# Altium footprint library RESISTORS.PcbLib: 18 footprints (part 1 of 2)
Each footprint in its own frame and in the unit in brackets; x right, y up, seen from the top. Pads: shape width x height; smd on the part's side, far side on the other; paste and mask are expansions set on the pad; w line width, h text height; cw(c..) or ccw(c..) is an arc to the next point about the centre after c.
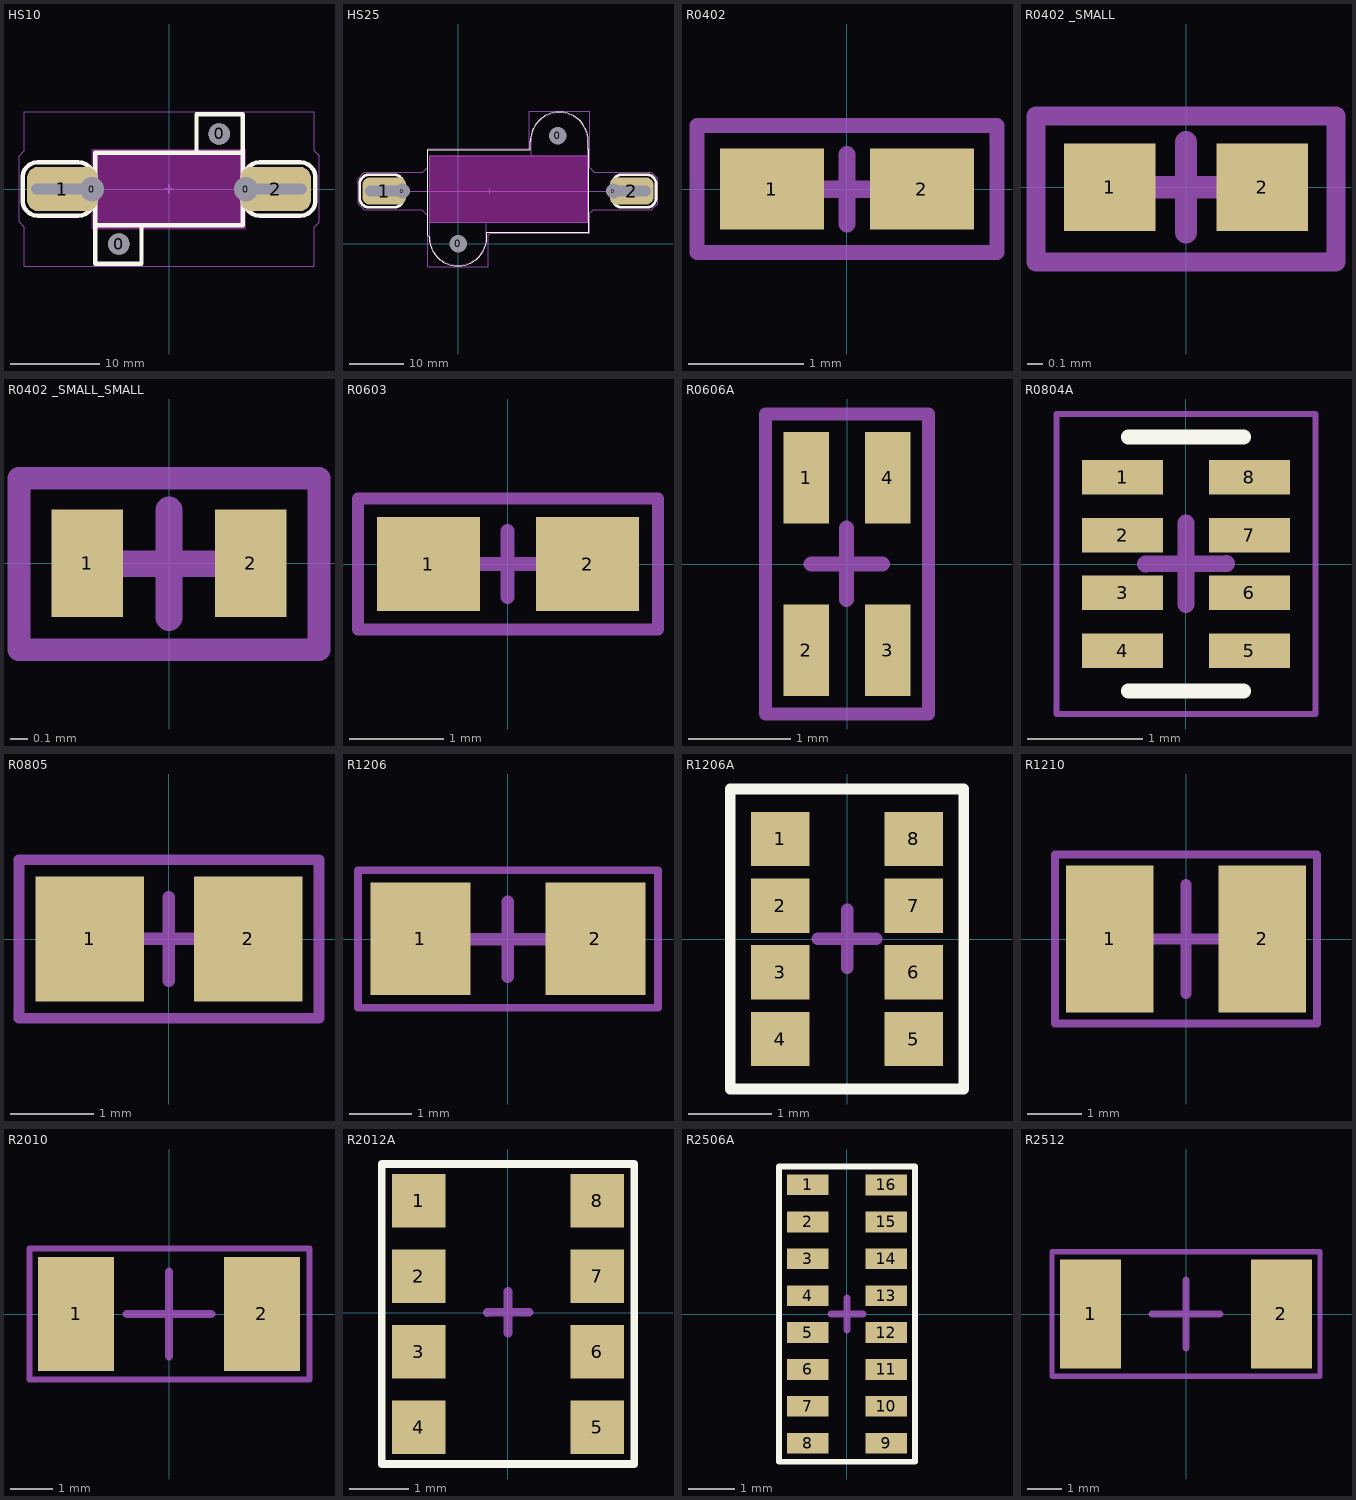
[diagram p0: the footprints below, top view; thin cyan lines are the x and y axes]

## HS10 [mm] "HS10"
height 9
pads (6):
  round 1.4 hole 2.75 unplated: 0(-8.678,-0.025) 0(8.675,-0.025)
  round 2.4 hole 2.4 unplated: 0(-5.65,-6.2) 0(5.65,6.2)
  rrect50% 8x5 hole 1.2 slot 7 at 0 deg paste+0 mask+0.102: 1(-12,0)
  rrect50% 8x5 hole 1.2 slot 7 at 0 deg: 2(12,0)
Top Overlay:
  lines w0.5: -14.8,-3 -10.2,-3 ; -14.8,3 -10.2,3 ; -14.793,-3 cw(c-14.793,-1.293) -16,-2.5 cw(c-14.793,-1.293) -16.5,-1.293 -16.5,1.293 cw(c-14.793,1.293) -16,2.5 cw(c-14.793,1.293) -14.793,3 ; -10.207,-3 ccw(c-10.207,-1.293) -9,-2.5 ccw(c-10.207,-1.293) -8.5,-1.293 -8.5,1.293 ccw(c-10.207,1.293) -9,2.5 ccw(c-10.207,1.293) -10.207,3 ; -8.3,-4 -8.3,-8.4 -3.1,-8.4 -3.1,-4.1 ; 3.1,4.1 3.1,8.4 8.3,8.4 8.3,3.9 ; 10.2,-3 14.8,-3 ; 10.2,3 14.8,3 ; 10.207,-3 cw(c10.207,-1.293) 9,-2.5 cw(c10.207,-1.293) 8.5,-1.293 8.5,1.293 cw(c10.207,1.293) 9,2.5 cw(c10.207,1.293) 10.207,3 ; 14.793,-3 ccw(c14.793,-1.293) 16,-2.5 ccw(c14.793,-1.293) 16.5,-1.293 16.5,1.293 ccw(c14.793,1.293) 16,2.5 ccw(c14.793,1.293) 14.793,3 ; -8.3,-4.1 8.3,-4.1 8.3,4.1 -8.3,4.1 -8.3,-4.1
Top Paste:
  lines w0.5: -3.4,-4.1 -3.3,-4.1
Keep-Out Layer:
  board cut-out: -8.678,4.475 -8.678,-4.525 8.675,-4.525 8.675,4.475
Top Assembly:
  lines w0.127: -16.9,-3.713 -16.325,-4.288 -16.325,-8.7 16.375,-8.7 16.375,-4.287 16.9,-3.762 16.9,3.763 16.375,4.288 16.375,8.7 -16.325,8.698 -16.325,4.286 -16.9,3.711 -16.9,-3.713
  text ".Designator" at -11.2,5.7 h1.2
Top Component Center:
  lines w0.15: -0.502,0 0.498,0 ; -0.006,-0.499 -0.006,0.501
3D body "1879073-3.stp": height 4.1, standoff -4.9, extent -15,-8.5 15,8.5

## HS25 [mm] "HS10"
height 9
pads (6):
  round 1.4 hole 2.75 unplated: 0(-10.227,9.652) 0(28.538,9.652)
  round 2.4 hole 3.2 unplated: 0(0,0) 0(18.3,19.8)
  rrect50% 8x5 hole 2 slot 7 at 0 deg paste+0 mask+0.102: 1(-13.549,9.677)
  rrect50% 8x5 hole 2 slot 7 at 0 deg: 2(31.863,9.677)
Top Overlay:
  lines w0.152: -5.334,1.245 ccw(c-0.013,1.245) 5.309,1.245 ; -5.334,1.27 -5.537,1.473 -5.537,2.273 -5.537,17.272 13.259,17.272 13.284,17.297 13.284,18.847 cw(c18.605,18.847) 23.927,18.847 ; 5.309,1.27 5.309,2.083 ; 5.309,2.089 23.978,2.121 23.978,17.255 ; 23.927,18.943 23.927,17.323 23.978,17.272
  lines w0.5: -16.349,6.677 -11.749,6.677 ; -16.349,12.677 -11.749,12.677 ; -16.342,6.677 cw(c-16.342,8.385) -17.549,7.177 cw(c-16.342,8.385) -18.049,8.385 -18.049,10.97 cw(c-16.342,10.97) -17.549,12.177 cw(c-16.342,10.97) -16.342,12.677 ; -11.757,6.677 ccw(c-11.757,8.385) -10.549,7.177 ccw(c-11.757,8.385) -10.049,8.385 -10.049,10.97 ccw(c-11.757,10.97) -10.549,12.177 ccw(c-11.757,10.97) -11.757,12.677 ; 30.063,6.677 34.663,6.677 ; 30.063,12.677 34.663,12.677 ; 30.07,6.677 cw(c30.07,8.385) 28.863,7.177 cw(c30.07,8.385) 28.363,8.385 28.363,10.97 cw(c30.07,10.97) 28.863,12.177 cw(c30.07,10.97) 30.07,12.677 ; 34.656,6.677 ccw(c34.656,8.385) 35.863,7.177 ccw(c34.656,8.385) 36.363,8.385 36.363,10.97 ccw(c34.656,10.97) 35.863,12.177 ccw(c34.656,10.97) 34.656,12.677
Keep-Out Layer:
  board cut-out: -5.207,16.154 -5.207,3.962 23.8,3.962 23.8,16.154
Top Assembly:
  lines w0.1: -13.549,9.677 31.451,9.677
  lines w0.127: 36.712,7.459 36.712,11.904 35.484,13.132 24.994,13.132 24.181,13.945 24.181,24.309 13.056,24.309 13.056,17.628 12.903,17.475 -5.537,17.475 -5.537,14.072 -6.528,13.081 -17.221,13.081 -18.373,11.929 -18.373,7.375 -17.255,6.257 -6.647,6.257 -5.563,5.173 -5.563,-4.216 5.563,-4.216 5.563,1.549 5.893,1.88 24.181,1.88 24.181,5.613 24.79,6.223 35.484,6.223 36.72,7.459
  text ".Designator" at 1.372,11.709 h1.2
Top Component Center:
  lines w0.15: 5.289,9.678 6.289,9.678 ; 5.785,9.178 5.785,10.178
Mechanical 13:
  lines w0: -5.207,1.245 ccw(c-0.013,1.245) 5.182,1.245 ; 13.411,18.847 cw(c18.605,18.847) 23.8,18.847
  lines w0.025: -5.207,1.245 -5.207,3.95 ; 5.182,1.245 5.182,3.95 ; 13.411,16.142 13.411,18.847 ; 23.8,18.847 23.8,16.142 ; -5.207,3.95 -5.207,16.142 23.8,16.142 ; -5.207,3.95 23.8,3.95 23.8,16.142
3D body "HSA25 - c-1676625-2-t-3d.stp": height 7, standoff -8, extent -16.35,-4.3 34.65,23.7

## R0402 [mm]
pads (2):
  rect 0.9x0.7 smd: 1(-0.65,0) 2(0.65,0)
Top Assembly:
  lines w0.127: -1.3,-0.55 -1.3,0.55 1.3,0.55 1.3,-0.55 -1.3,-0.55
  text ".Designator" at -1.45,1.2 h0.7
Top Component Center:
  lines w0.15: -0.3,-0.002 0.3,-0.002 ; 0,-0.302 0,0.298
3D body: height 0.4, standoff 0, extent 0.25,-0.3 0.55,0.3
3D body: height 0.4, standoff 0, extent -0.55,-0.3 -0.25,0.3
3D body: height 0.39, standoff 0, extent -0.525,-0.288 0.525,0.288

## R0402 _SMALL [mm]
pads (2):
  rect 0.61x0.584 smd: 1(-0.508,0) 2(0.508,0)
Top Assembly:
  lines w0.127: -1,-0.5 1,-0.5 1,0.475 -1,0.475 -1,-0.5
  text ".Designator" at -0.725,-0.225 h0.5
Top Component Center:
  lines w0.15: -0.3,-0.002 0.3,-0.002 ; 0,-0.302 0,0.298
3D body: height 0.39, standoff 0, extent -0.525,-0.288 0.525,0.288
3D body: height 0.4, standoff 0, extent -0.55,-0.3 -0.25,0.3
3D body: height 0.4, standoff 0, extent 0.25,-0.3 0.55,0.3

## R0402 _SMALL_SMALL [mm]
pads (2):
  rect 0.4x0.6 smd: 1(-0.457,0) 2(0.457,0)
Top Assembly:
  lines w0.127: -0.838,-0.483 -0.838,0.475 0.838,0.475 0.838,-0.483 -0.838,-0.483
  text ".Designator" at -0.584,-0.279 h0.5
Top Component Center:
  lines w0.15: -0.3,-0.002 0.3,-0.002 ; 0,-0.302 0,0.298
3D body: height 0.4, standoff 0, extent 0.25,-0.3 0.55,0.3
3D body: height 0.4, standoff 0, extent -0.55,-0.3 -0.25,0.3
3D body: height 0.39, standoff 0, extent -0.525,-0.288 0.525,0.288

## R0603 [mm]
pads (2):
  rect 1.1x1 smd: 1(-0.85,0) 2(0.85,0)
Top Assembly:
  lines w0.127: -1.6,-0.7 1.6,-0.7 1.6,0.7 -1.6,0.7 -1.6,-0.7
  text ".Designator" at -1.05,-0.4 h0.8
Top Component Center:
  lines w0.15: -0.352,0 0.348,0 ; -0.004,-0.35 -0.004,0.35
3D body: height 0.59, standoff 0, extent -0.825,-0.463 0.825,0.463
3D body: height 0.6, standoff 0, extent -0.85,-0.475 -0.45,0.475
3D body: height 0.6, standoff 0, extent 0.45,-0.475 0.85,0.475

## R0606A [mm]
pads (4):
  rect 0.45x0.9 smd: 1(-0.4,0.85) 2(-0.4,-0.85) 3(0.4,-0.85) 4(0.4,0.85)
Top Assembly:
  lines w0.127: -0.8,-1.475 0.8,-1.475 0.8,1.475 -0.8,1.475 -0.8,-1.475
  text ".Designator" at -0.375,1.2 h0.8
Top Component Center:
  lines w0.15: -0.352,0 0.348,0 ; -0.004,-0.35 -0.004,0.35
3D body: height 0.6, standoff 0, extent 0.15,-0.81 0.65,-0.51
3D body: height 0.6, standoff 0, extent -0.65,-0.81 -0.15,-0.51
3D body: height 0.6, standoff 0, extent -0.65,0.51 -0.15,0.81
3D body: height 0.6, standoff 0, extent 0.15,0.51 0.65,0.81
3D body: height 0.59, standoff 0, extent -0.8,-0.8 0.8,0.8

## R0804A [mm]
pads (8):
  rect 0.7x0.3 smd: 1(-0.55,0.75) 2(-0.55,0.25) 3(-0.55,-0.25) 4(-0.55,-0.75) 5(0.55,-0.75) 6(0.55,-0.25) 7(0.55,0.25) 8(0.55,0.75)
Top Overlay:
  lines w0.127: -0.5,-1.1 0.5,-1.1 ; -0.5,1.1 0.5,1.1
Top Assembly:
  lines w0.051: -1.123,-1.299 -1.123,1.299 1.123,1.299 1.123,-1.299 -1.123,-1.299
  text ".Designator" at -0.55,0.75 h0.8
Top Component Center:
  lines w0.15: -0.35,0 0.35,0.004 ; 0,-0.348 0,0.352
3D body: height 0.46, standoff 0, extent -0.51,-0.95 -0.21,-0.55
3D body: height 0.46, standoff 0, extent -0.51,-0.45 -0.21,-0.05
3D body: height 0.46, standoff 0, extent -0.51,0.05 -0.21,0.45
3D body: height 0.46, standoff 0, extent -0.51,0.55 -0.21,0.95
3D body: height 0.46, standoff 0, extent 0.21,-0.95 0.51,-0.55
3D body: height 0.46, standoff 0, extent 0.21,-0.45 0.51,-0.05
3D body: height 0.46, standoff 0, extent 0.21,0.05 0.51,0.45
3D body: height 0.46, standoff 0, extent 0.21,0.55 0.51,0.95
3D body: height 0.45, standoff 0.01, extent -0.5,-1 0.5,1

## R0805 [mm]
pads (2):
  rect 1.3x1.5 smd: 1(-0.95,0) 2(0.95,0)
Top Assembly:
  lines w0.127: -1.8,-0.95 -1.8,0.95 1.8,0.95 1.8,-0.95 -1.8,-0.95
  text ".Designator" at -1.45,-0.55 h1.2
Top Component Center:
  lines w0.15: -0.502,0 0.498,0 ; -0.006,-0.499 -0.006,0.501
3D body: height 0.65, standoff 0, extent 0.425,-0.7 1.075,0.7
3D body: height 0.64, standoff 0, extent -1.05,-0.687 1.05,0.687
3D body: height 0.65, standoff 0, extent -1.075,-0.7 -0.425,0.7

## R1206 [mm]
pads (2):
  rect 1.6x1.8 smd: 1(-1.4,0) 2(1.4,0)
Top Assembly:
  lines w0.127: -2.4,-1.1 2.4,-1.1 2.4,1.1 -2.4,1.1 -2.4,-1.1
  text ".Designator" at -1.775,-0.75 h1.5
Top Component Center:
  lines w0.2: -0.6,0 0.6,0 ; 0,-0.6 0,0.6
3D body: height 0.71, standoff 0, extent -1.675,-0.875 -0.925,0.875
3D body: height 0.7, standoff 0, extent -1.65,-0.862 1.65,0.862
3D body: height 0.71, standoff 0, extent 0.925,-0.875 1.675,0.875

## R1206A [mm]
pads (8):
  rect 0.7x0.65 smd: 1(-0.8,1.2) 2(-0.8,0.4) 3(-0.8,-0.4) 4(-0.8,-1.2) 5(0.8,-1.2) 6(0.8,-0.4) 7(0.8,0.4) 8(0.8,1.2)
Top Overlay:
  lines w0.127: -1.4,-1.8 -1.4,1.8 1.4,1.8 1.4,-1.8 -1.4,-1.8
Top Assembly:
  lines w0.1: -1.4,-1.8 1.4,-1.8 1.4,1.8 -1.4,1.8 -1.4,-1.8
  text ".Designator" at -4,-3.6 h0.8
Top Component Center:
  lines w0.15: -0.35,0 0.35,0.004 ; 0,-0.348 0,0.352
3D body: height 0.6, standoff 0, extent 0.5,0.95 0.8,1.45
3D body: height 0.6, standoff 0, extent 0.5,0.15 0.8,0.65
3D body: height 0.6, standoff 0, extent 0.5,-0.65 0.8,-0.15
3D body: height 0.6, standoff 0, extent 0.5,-1.45 0.8,-0.95
3D body: height 0.6, standoff 0, extent -0.8,-1.45 -0.5,-0.95
3D body: height 0.6, standoff 0, extent -0.8,-0.65 -0.5,-0.15
3D body: height 0.6, standoff 0, extent -0.8,0.15 -0.5,0.65
3D body: height 0.59, standoff 0.1, extent -0.8,-1.6 0.8,1.6
3D body: height 0.6, standoff 0, extent -0.8,0.95 -0.5,1.45

## R1210 [mm]
pads (2):
  rect 1.6x2.7 smd: 1(-1.4,0) 2(1.4,0)
Top Assembly:
  lines w0.15: -2.4,1.55 -2.4,-1.55 2.4,-1.55 2.4,1.55 -2.4,1.55
  text ".Designator" at -1.9,-0.825 h1.5
Top Component Center:
  lines w0.2: -1,0 1,0 ; 0,-1 0,1
3D body: height 0.71, standoff 0, extent 0.925,-1.325 1.675,1.325
3D body: height 0.7, standoff 0, extent -1.65,-1.312 1.65,1.312
3D body: height 0.71, standoff 0, extent -1.675,-1.325 -0.925,1.325

## R2010 [mm]
pads (2):
  rect 1.8x2.7 smd: 1(-2.2,0) 2(2.2,0)
Top Assembly:
  lines w0.15: -3.3,-1.55 -3.3,1.55 3.325,1.55 3.325,-1.55 -3.3,-1.55
  text ".Designator" at -2.075,-0.675 h1.5
Top Component Center:
  lines w0.2: -1,0 1,0 ; 0,-1 0,1
3D body: height 0.71, standoff 0, extent -2.575,-1.325 -1.725,1.325
3D body: height 0.7, standoff 0, extent -2.55,-1.312 2.55,1.313
3D body: height 0.71, standoff 0, extent 1.725,-1.325 2.575,1.325

## R2012A [mm]
pads (8):
  rect 0.9x0.9 smd: 1(-1.5,1.88) 2(-1.5,0.61) 3(-1.5,-0.66) 4(-1.5,-1.93) 5(1.5,-1.93) 6(1.5,-0.66) 7(1.5,0.61) 8(1.5,1.88)
Top Overlay:
  lines w0.127: -2.125,-2.55 -2.125,2.5 2.125,2.5 2.125,-2.55 -2.125,-2.55
Top Assembly:
  lines w0.1: -2.125,-2.55 2.125,-2.55 2.125,2.5 -2.125,2.5 -2.125,-2.55
  text ".Designator" at -0.375,2.175 h0.8
Top Component Center:
  lines w0.15: -0.35,0 0.35,0.004 ; 0,-0.348 0,0.352
3D body: height 0.59, standoff 0.1, extent -1.597,-2.544 1.597,2.544
3D body: height 0.6, standoff 0, extent 1.1,-2.375 1.6,-1.475
3D body: height 0.6, standoff 0, extent 1.1,-1.1 1.6,-0.2
3D body: height 0.6, standoff 0, extent -1.6,-2.375 -1.1,-1.475
3D body: height 0.6, standoff 0, extent -1.6,-1.1 -1.1,-0.2
3D body: height 0.6, standoff 0, extent -1.6,0.175 -1.1,1.075
3D body: height 0.6, standoff 0, extent 1.1,0.175 1.6,1.075
3D body: height 0.6, standoff 0, extent -1.6,1.425 -1.1,2.325
3D body: height 0.6, standoff 0, extent 1.1,1.425 1.6,2.325

## R2506A [mm]
pads (16):
  rect 0.9x0.45 smd: 1(-0.85,2.805) 2(-0.85,2) 3(-0.85,1.2) 4(-0.85,0.4) 5(-0.85,-0.4) 6(-0.85,-1.2) 7(-0.85,-2) 8(-0.85,-2.8) 9(0.85,-2.8) 10(0.85,-2) 11(0.85,-1.2) 12(0.85,-0.4) 13(0.85,0.4) 14(0.85,1.2) 15(0.85,2) 16(0.85,2.8)
Top Overlay:
  lines w0.127: -1.475,-3.2 1.475,-3.2 1.475,3.2 -1.475,3.2 -1.475,-3.2
Top Assembly:
  lines w0.1: -1.475,-3.2 -1.475,3.2 1.475,3.2 1.475,-3.2 -1.475,-3.2
  text ".Designator" at -0.325,2.175 h0.8
Top Component Center:
  lines w0.15: -0.35,0 0.35,0.004 ; 0,-0.348 0,0.352
3D body: height 0.59, standoff 0.1, extent -0.798,-3.197 0.798,3.197
3D body: height 0.6, standoff 0, extent 0.5,2.55 0.8,3.05
3D body: height 0.6, standoff 0, extent 0.5,1.75 0.8,2.25
3D body: height 0.6, standoff 0, extent 0.5,0.95 0.8,1.45
3D body: height 0.6, standoff 0, extent 0.5,0.15 0.8,0.65
3D body: height 0.6, standoff 0, extent 0.5,-0.65 0.8,-0.15
3D body: height 0.6, standoff 0, extent 0.5,-1.45 0.8,-0.95
3D body: height 0.6, standoff 0, extent 0.5,-2.25 0.8,-1.75
3D body: height 0.6, standoff 0, extent 0.5,-3.05 0.8,-2.55
3D body: height 0.6, standoff 0, extent -0.8,-3.05 -0.5,-2.55
3D body: height 0.6, standoff 0, extent -0.8,-2.25 -0.5,-1.75
3D body: height 0.6, standoff 0, extent -0.8,-1.45 -0.5,-0.95
3D body: height 0.6, standoff 0, extent -0.8,-0.65 -0.5,-0.15
3D body: height 0.6, standoff 0, extent -0.8,0.15 -0.5,0.65
3D body: height 0.6, standoff 0, extent -0.8,0.95 -0.5,1.45
3D body: height 0.6, standoff 0, extent -0.8,1.75 -0.5,2.25
3D body: height 0.6, standoff 0, extent -0.8,2.55 -0.5,3.05

## R2512 [mm]
pads (2):
  rect 1.8x3.2 smd: 1(-2.8,0) 2(2.8,0)
Top Assembly:
  lines w0.15: -3.925,-1.825 -3.925,1.825 3.925,1.825 3.925,-1.825 -3.925,-1.825
  text ".Designator" at -2.525,-0.9 h1.8
Top Component Center:
  lines w0.2: -1,0 1,0 ; 0,-1 0,1
3D body: height 0.71, standoff 0, extent -3.225,-1.675 -2.375,1.675
3D body: height 0.7, standoff 0, extent -3.2,-1.662 3.2,1.662
3D body: height 0.71, standoff 0, extent 2.375,-1.675 3.225,1.675